# Altium integrated library BK-18650-PC6.IntLib: 1 symbol
Pins are listed as number, name and electrical type; pins without a type are passive.

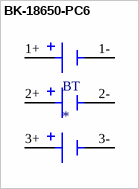
[diagram p0: symbol BK-18650-PC6]

## BK-18650-PC6
designator BT
Battery Holder _Open_ 18650 3 Cell PC Pin; MF: MPD; MP: BK-18650-PC6; Price: None; Package: None; Availability: Unavailable; SnapEDA_Link: https://www.snapeda.com/parts/BK-18650-PC6/MPD/view-part/4480464/?ref=snap; Value: *
footprint BAT_BK-18650-PC6
pins: 1+, 1-, 2+, 2-, 3+, 3-